# Altium footprint library WRIS-PSMB.PcbLib: 6 footprints
Each footprint in its own frame and in the unit in brackets; x right, y up, seen from the top. Pads: shape width x height; smd on the part's side, far side on the other; paste and mask are expansions set on the pad; w line width, h text height; cw(c..) or ccw(c..) is an arc to the next point about the centre after c.
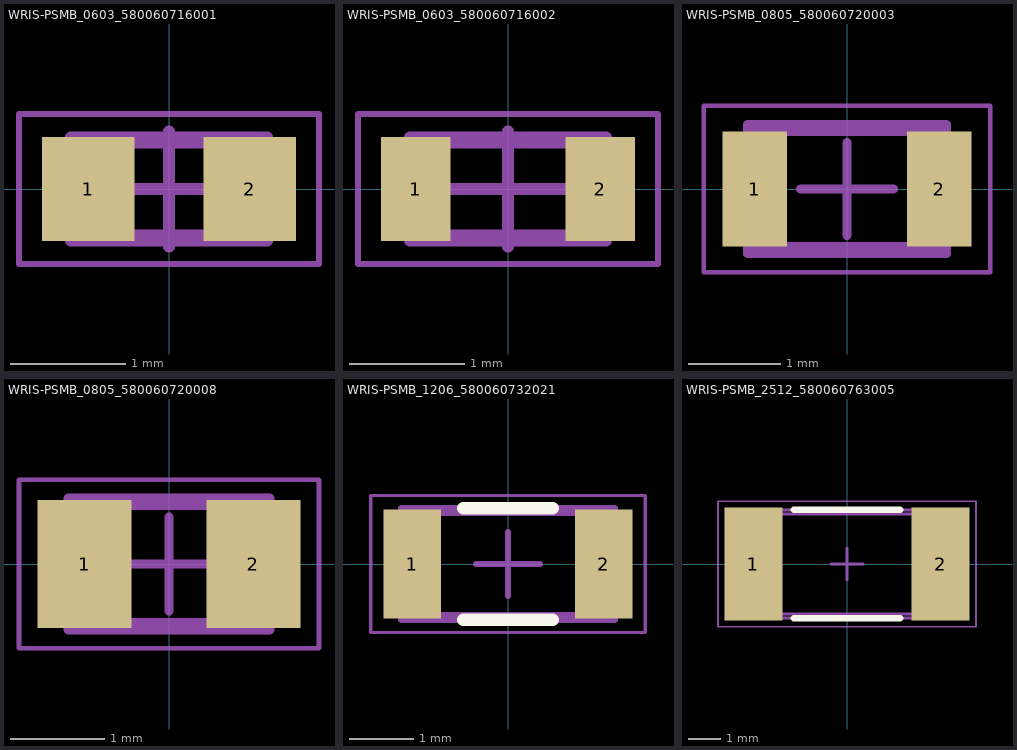
[diagram p0: the footprints below, top view; thin cyan lines are the x and y axes]

## WRIS-PSMB_0603_580060716001 [mm] "Metal Plate Resistor, SMT, body size 1.6x0.8mm"
height 0.35
pads (2):
  rect 0.8x0.9 smd: 1(-0.7,0) 2(0.7,0)
Top Assembly:
  lines w0.1: -0.85,-0.45 0.85,-0.45 0.85,0.45 -0.85,0.45 -0.85,-0.45
Top Designator:
  text ".Designator" at -3.647,-0.357 h1
Top 3D Body:
  lines w0.1: -0.8,-0.4 0.8,-0.4 0.8,0.4 -0.8,0.4 -0.8,-0.4
Top Courtyard:
  lines w0.05: -1.3,-0.65 1.3,-0.65 1.3,0.65 -1.3,0.65 -1.3,-0.65
Top Component Center:
  lines w0.1: -0.5,0 0.5,0 ; 0,-0.5 0,0.5
3D body "1,6x0,8x0,35.stp": height 0.35, standoff 0, extent -0.8,-0.4 0.8,0.4

## WRIS-PSMB_0603_580060716002 [mm] "Metal Plate Resistor, SMT, body size 1.6x0.8mm"
height 0.3
pads (2):
  rect 0.6x0.9 smd: 1(-0.8,0) 2(0.8,0)
Top Assembly:
  lines w0.1: -0.85,-0.45 0.85,-0.45 0.85,0.45 -0.85,0.45 -0.85,-0.45
Top Designator:
  text ".Designator" at -3.647,-0.357 h1
Top 3D Body:
  lines w0.1: -0.8,-0.4 0.8,-0.4 0.8,0.4 -0.8,0.4 -0.8,-0.4
Top Courtyard:
  lines w0.05: -1.3,-0.65 -1.3,0.65 1.3,0.65 1.3,-0.65 -1.3,-0.65
Top Component Center:
  lines w0.1: -0.5,0 0.5,0 ; 0,-0.5 0,0.5
3D body "WRIS-PSMB_0603.stp": height 0.3, standoff 0, extent -0.8,-0.4 0.8,0.4

## WRIS-PSMB_0805_580060720003 [mm] "Metal Plate Resistor, SMT, body size 2x1.25mm"
height 0.35
pads (2):
  rect 0.7x1.25 smd: 1(-1,0) 2(1,0)
Top Assembly:
  lines w0.1: -1.075,-0.7 -1.075,0.7 1.075,0.7 1.075,-0.7 -1.075,-0.7
Top Designator:
  text ".Designator" at -3.647,-0.357 h1
Top 3D Body:
  lines w0.1: -1,-0.625 -1,0.625 1,0.625 1,-0.625 -1,-0.625
Top Courtyard:
  lines w0.05: -1.55,-0.9 -1.55,0.9 1.55,0.9 1.55,-0.9 -1.55,-0.9
Top Component Center:
  lines w0.1: -0.5,0 0.5,0 ; 0,-0.5 0,0.5
3D body "2,0x1,25x0,22x0,35x0,6.stp": height 0.22, standoff 0, extent -1,-0.625 1,0.625

## WRIS-PSMB_0805_580060720008 [mm] "Metal Plate Resistor, SMT, body size 2x1.25mm"
height 0.22
pads (2):
  rect 1x1.36 smd: 1(-0.9,0) 2(0.9,0)
Top Assembly:
  lines w0.1: -1.075,-0.7 -1.075,0.7 1.075,0.7 1.075,-0.7 -1.075,-0.7
Top Designator:
  text ".Designator" at -3.647,-0.357 h1
Top 3D Body:
  lines w0.1: -1,-0.625 -1,0.625 1,0.625 1,-0.625 -1,-0.625
Top Courtyard:
  lines w0.05: -1.6,-0.9 -1.6,0.9 1.6,0.9 1.6,-0.9 -1.6,-0.9
Top Component Center:
  lines w0.1: -0.5,0 0.5,0 ; 0,-0.5 0,0.5
3D body "2,0x1,25x0,22x0,35x0,47.stp": height 0.22, standoff 0, extent -1,-0.625 1,0.625

## WRIS-PSMB_1206_580060732021 [mm] "Metal Plate Resistor, SMT, body size 3.20x1.60mm"
height 0.28
pads (2):
  rect 0.9x1.7 smd: 1(-1.5,0) 2(1.5,0)
Top Overlay:
  lines w0.2: -0.7,-0.875 0.7,-0.875 ; -0.7,0.875 0.7,0.875
Top Assembly:
  lines w0.1: -1.675,-0.875 1.675,-0.875 1.675,0.875 -1.675,0.875 -1.675,-0.875
Top Designator:
  text ".Designator" at -3.647,-0.357 h1
Top 3D Body:
  lines w0.1: -1.6,-0.8 1.6,-0.8 1.6,0.8 -1.6,0.8 -1.6,-0.8
Top Courtyard:
  lines w0.05: -2.15,-1.075 2.15,-1.075 2.15,1.075 -2.15,1.075 -2.15,-1.075
Top Component Center:
  lines w0.1: -0.5,0 0.5,0 ; 0,-0.5 0,0.5
3D body "WRIS-PSMB_1206_580060732021.stp": height 0.28, standoff 0, extent -1.6,-0.8 1.6,0.8

## WRIS-PSMB_2512_580060763005 [mm] "Metal Plate Resistor, SMT, body size 6.3x3.1mm"
height 0.35
pads (2):
  rect 1.8x3.5 smd: 1(-2.9,0) 2(2.9,0)
Top Overlay:
  lines w0.2: -1.65,-1.675 1.65,-1.675 ; -1.65,1.675 1.65,1.675
Top Assembly:
  lines w0.1: -3.275,-1.675 -3.275,1.675 3.275,1.675 3.275,-1.675 -3.275,-1.675
Top Designator:
  text ".Designator" at -3.647,-0.357 h1
Top 3D Body:
  lines w0.1: -3.15,-1.55 -3.15,1.55 3.15,1.55 3.15,-1.55 -3.15,-1.55
Top Courtyard:
  lines w0.05: -4,-1.95 -4,1.95 4,1.95 4,-1.95 -4,-1.95
Top Component Center:
  lines w0.1: -0.5,0 0.5,0 ; 0,-0.5 0,0.5
3D body "6,3x3,1x0,35x1,4x1,4.stp": height 0.35, standoff 0, extent -3.15,-1.55 3.15,1.55